# Altium footprint library PCB - CAPACITOR - MLCC - MURATA GRM188 0603_1608.PCBLIB: 1 footprints
Each footprint in its own frame and in the unit in brackets; x right, y up, seen from the top. Pads: shape width x height; smd on the part's side, far side on the other; paste and mask are expansions set on the pad; w line width, h text height; cw(c..) or ccw(c..) is an arc to the next point about the centre after c.
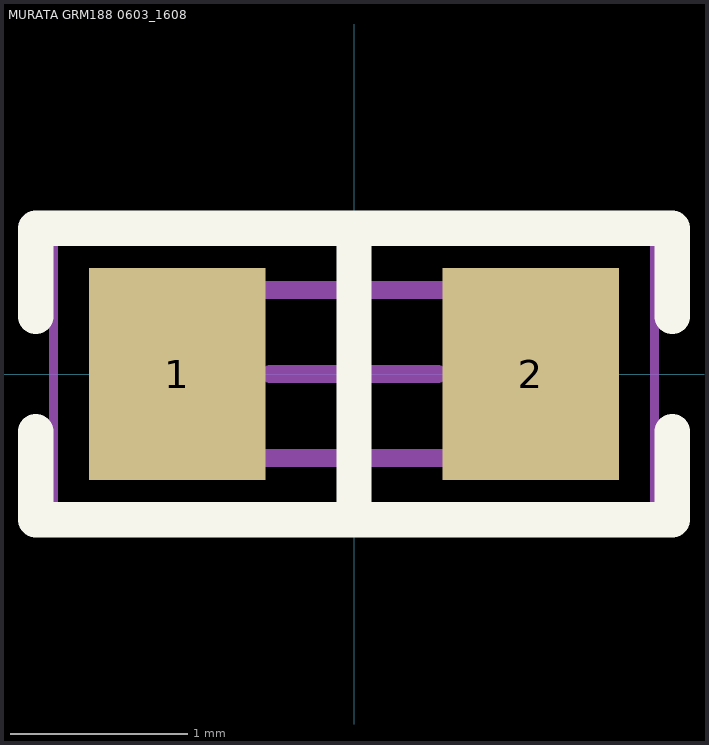
[diagram p0: the footprint, top view; thin cyan lines are the x and y axes]

## MURATA GRM188 0603_1608 [mm] "Chip Capacitor, 2-Leads, Body 1.60x0.80mm"
height 1
pads (2):
  rect 1x1.2 smd: 1(-1,0) 2(1,0)
Top Overlay:
  lines w0.2: -1.8,-0.325 -1.8,-0.825 1.8,-0.825 1.8,-0.325 ; -1.8,0.325 -1.8,0.825 1.8,0.825 1.8,0.325 ; 0,-0.825 0,0.825
Mechanical 13:
  lines w0.1: -0.875,-0.475 0.875,-0.475 0.875,0.475 -0.875,0.475 -0.875,-0.475
Mechanical 15:
  lines w0.05: -1.7,-0.8 1.7,-0.8 1.7,0.8 -1.7,0.8 -1.7,-0.8
  lines w0.1: -0.475,0 0.475,0 ; 0,-0.475 0,0.475
3D body "Murata - GRM188.step": height 1, standoff 0, extent -0.9,-0.5 0.9,0.5